# EAGLE library part 7-SEGMENT-4DIGIT-YOUNGSUN (library 0Robin)
quad 7seg 12pin
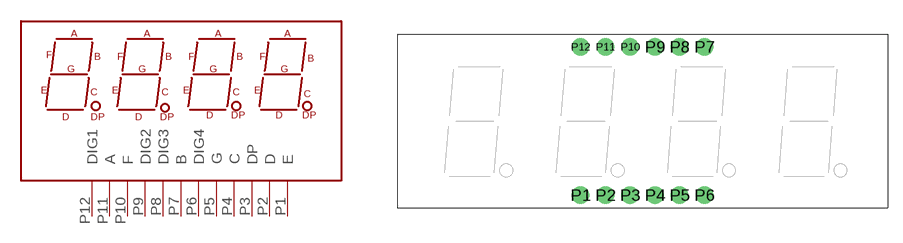
[diagram p1: symbol with the pads of 7-SEGMENT-4DIGIT-YOUNGSUN; footprint 7-SEGMENT-4DIGIT-YOUNGSUN]

Designator prefix -

## 7-SEGMENT-4DIGIT-YOUNGSUNQUAD-7SEG-12PIN  [7-SEGMENT-4DIGIT-YOUNGSUN]
P1  E
P2  D
P3  DP
P4  C
P5  G
P6  DIG4
P7  B
P8  DIG3
P9  DIG2
P10  F
P11  A
P12  DIG1

## Footprint 7-SEGMENT-4DIGIT-YOUNGSUN (pad centres in mm)
This is a package for the 4-digit 7-segment RED LED from Young Sun.
drill 0.8 pad 1.778 round: P1 -6.35,-8.89; P2 -3.81,-8.89; P3 -1.27,-8.89; P4 1.27,-8.89; P5 3.81,-8.89; P6 6.35,-8.89; P7 6.35,6.35; P8 3.81,6.35; P9 1.27,6.35; P10 -1.27,6.35; P11 -3.81,6.35; P12 -6.35,6.35